# EAGLE library part 648108131822 (library Wuerth_Elektronik_eiCan_Wire_to_Board_Connectors v1.2)
WR-WTB 1.50mm SMT Male Horizontal Shrouded Header, 8 Pins
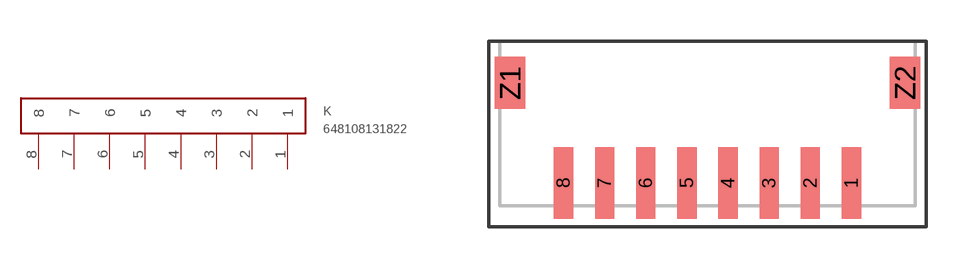
[diagram p50: symbol with the pads of 648108131822; footprint 648108131822]

Designator prefix K

## 648108131822  [648108131822]
1  1
2  2
3  3
4  4
5  5
6  6
7  7
8  8

## Footprint 648108131822 (pad centres in mm)
WR-WTB 1.50mm SMT Male Horizontal Shrouded Header, 8 Pins
smd 0.7 x 2.6: 1 9.75,0; 2 8.25,0; 3 6.75,0; 4 5.25,0; 5 3.75,0; 6 2.25,0; 7 0.75,0; 8 -0.75,0
smd 1.1 x 1.9: Z1 -2.7,3.65; Z2 11.7,3.65